# EAGLE library part ORANGE_PI_ADAPTER1 (library thanics_robotics)
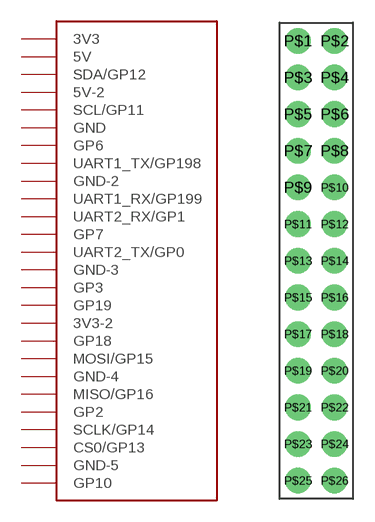
[diagram p10: symbol with the pads of ORANGE_PI_ADAPTER; footprint ORANGE_PI_ADAPTER]

Designator prefix -

## ORANGE_PI_ADAPTER1  [ORANGE_PI_ADAPTER]
P$1  3V3
P$2  5V
P$3  SDA/GP12
P$4  5V-2
P$5  SCL/GP11
P$6  GND
P$7  GP6
P$8  UART1_TX/GP198
P$9  GND-2
P$10  UART1_RX/GP199
P$11  UART2_RX/GP1
P$12  GP7
P$13  UART2_TX/GP0
P$14  GND-3
P$15  GP3
P$16  GP19
P$17  3V3-2
P$18  GP18
P$19  MOSI/GP15
P$20  GND-4
P$21  MISO/GP16
P$22  GP2
P$23  SCLK/GP14
P$24  CS0/GP13
P$25  GND-5
P$26  GP10

## Footprint ORANGE_PI_ADAPTER (pad centres in mm)
drill 1 pad 1.778: P$1 0,12.7; P$2 2.54,12.7; P$3 0,10.16; P$4 2.54,10.16; P$5 0,7.62; P$6 2.54,7.62; P$7 0,5.08; P$8 2.54,5.08; P$9 0,2.54; P$10 2.54,2.54; P$11 0,0; P$12 2.54,0; P$13 0,-2.54; P$14 2.54,-2.54; P$15 0,-5.08; P$16 2.54,-5.08; P$17 0,-7.62; P$18 2.54,-7.62; P$19 0,-10.16; P$20 2.54,-10.16; P$21 0,-12.7; P$22 2.54,-12.7; P$23 0,-15.24; P$24 2.54,-15.24; P$25 0,-17.78; P$26 2.54,-17.78